# Altium footprint library PCBLib.PcbLib: 14 footprints
Each footprint in its own frame and in the unit in brackets; x right, y up, seen from the top. Pads: shape width x height; smd on the part's side, far side on the other; paste and mask are expansions set on the pad; w line width, h text height; cw(c..) or ccw(c..) is an arc to the next point about the centre after c.
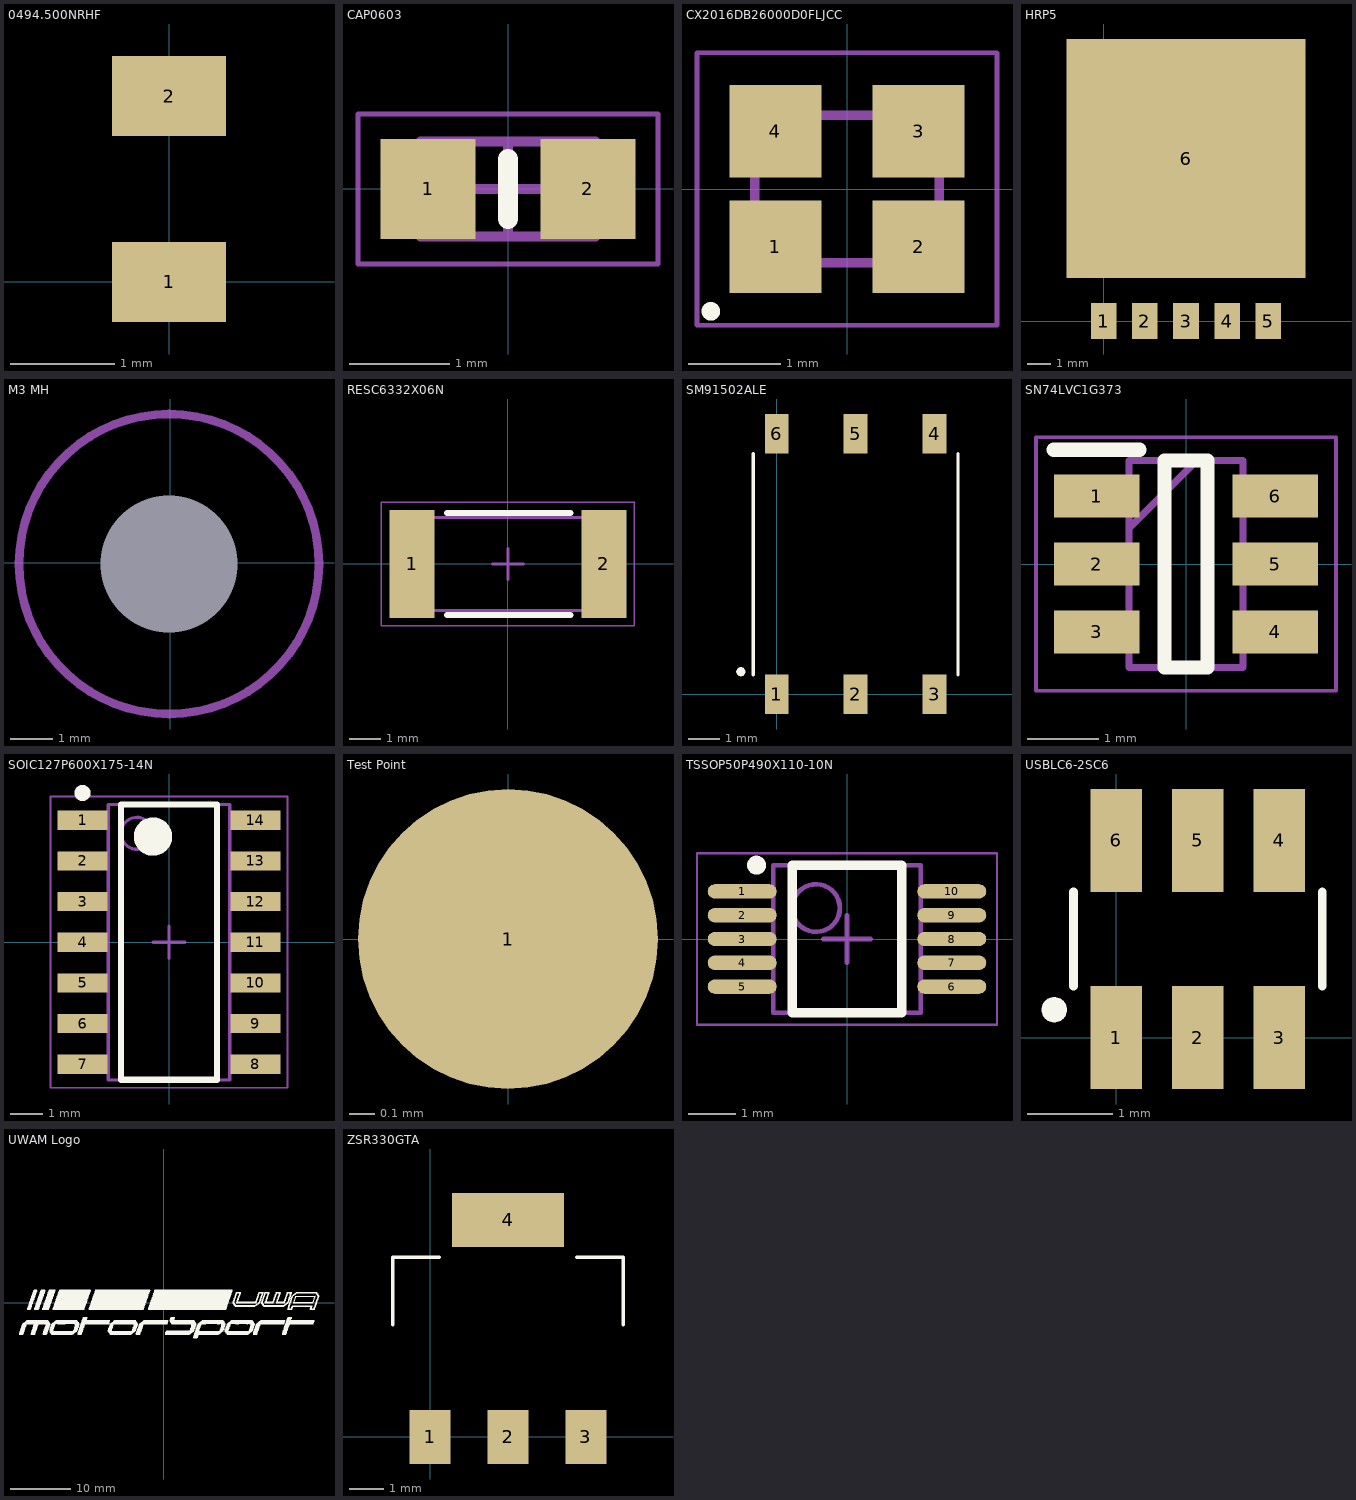
[diagram p0: the footprints below, top view; thin cyan lines are the x and y axes]

## 0494.500NRHF [mil] "500mA Fast Blow Fuse"
pads (2):
  rect 42.91x30 smd: 1(0,0) 2(0,70)

## CAP0603 [mm] "Chip Capacitor, 2-Leads, Body 1.60x0.80mm, IPC Medium Density"
height 0.9
pads (2):
  rect 0.95x1 smd: 1(-0.8,0) 2(0.8,0)
Top Overlay:
  lines w0.2: 0,-0.3 0,0.3
Top 3D Body:
  lines w0.05: -1.5,-0.75 1.5,-0.75 1.5,0.75 -1.5,0.75 -1.5,-0.75
  lines w0.1: -0.475,0 0.475,0 ; 0,-0.475 0,0.475
Top 3D Body (Mech13):
  lines w0.1: -0.875,-0.475 0.875,-0.475 0.875,0.475 -0.875,0.475 -0.875,-0.475
3D body "CAP0603.step": height 0.9, standoff 0, extent -0.875,-0.475 0.875,0.475

## CX2016DB26000D0FLJCC [mm] "26 MHz"
pads (4):
  rect 1x1 smd: 1(-0.775,-0.625) 2(0.775,-0.625) 3(0.775,0.625) 4(-0.775,0.625)
Top Overlay:
  lines w0.1: -1.428,-1.307 ccw(c-1.475,-1.325) -1.425,-1.325
Top Assembly:
  lines w0.1: -1,-0.8 1,-0.8 1,0.8 -1,0.8 -1,-0.8
Top Courtyard:
  lines w0.05: -1.625,-1.475 1.625,-1.475 1.625,1.475 -1.625,1.475 -1.625,-1.475
3D body "User Library-CX2016DB16000D0GPSC1.STEP": height 0.41, standoff 0.01, extent -1,-0.8 1,0.8

## HRP5 [mm] "LDO Regulator"
pads (6):
  rect 1.07x1.5 smd: 1(0,0) 2(1.72,0) 3(3.44,0) 4(5.16,0) 5(6.88,0)
  rect 10x10 smd: 6(3.44,6.8)
3D body "ba50dd0whfp-tr.stp": height 1.93, standoff 0.01, extent -1.295,-0.275 8.1,10.265

## M3 MH [mm] "M3 Mounting Hole"
pads (1):
  round 0 hole 3.2 unplated: 1(-0.025,-0.025)
Top 3D Body:
  circle w0.2: c-0.025,-0.025 r3.5

## RESC6332X06N [mm] "Chip Resistor, 2-Leads, Body 6.30x3.15mm, IPC Medium Density"
height 0.6
pads (2):
  rect 1.45x3.5 smd: 1(-3.1,0) 2(3.1,0)
Top Overlay:
  lines w0.2: -1.975,-1.65 2.025,-1.65 ; -1.975,1.65 2.025,1.65
Top 3D Body (Mech13):
  lines w0.1: -3.25,-1.5 3.25,-1.5 3.25,1.5 -3.25,1.5 -3.25,-1.5
Mechanical 15:
  lines w0.05: 4.075,2 4.075,-2 -4.1,-2 -4.1,2 4.1,2
  lines w0.1: -0.5,0 0.5,0 ; 0,-0.5 0,0.5
3D body "RESC6332X06N.step": height 0.6, standoff 0, extent -3.25,-1.5 3.25,1.5

## SM91502ALE [mm]
pads (7):
  rect 0.76x1.27 smd: 1(0,0) 2(2.54,0) 3(5.08,0) 4(5.08,8.38) 5(2.54,8.38) 6(0,8.38)
  round 0.3 on Top Overlay: ""(-1.15,0.725)
Top Overlay:
  lines w0.1: -0.75,0.625 -0.75,7.75 ; 5.83,0.625 5.83,7.75
3D body "SM91502ALE.STP": height 5.73, standoff 0.01, extent -1.285,-0.22 6.335,8.67

## SN74LVC1G373 [mm]
pads (6):
  rect 1.2x0.6 smd: 1(-1.25,0.95) 2(-1.25,0) 3(-1.25,-0.95) 4(1.25,-0.95) 5(1.25,0) 6(1.25,0.95)
Top Overlay:
  lines w0.2: -1.85,1.6 -0.65,1.6 ; -0.3,-1.45 -0.3,1.45 0.3,1.45 0.3,-1.45 -0.3,-1.45
Top 3D Body (Mech13):
  lines w0.1: -0.8,0.5 0.15,1.45 ; -0.8,-1.45 -0.8,1.45 0.8,1.45 0.8,-1.45 -0.8,-1.45
Mechanical 15:
  lines w0.05: -2.1,-1.775 -2.1,1.775 2.1,1.775 2.1,-1.775 -2.1,-1.775
3D body "74LVC1G373DBVRE4.stp": height 1.45, standoff 0, extent -1.4,-1.45 1.4,1.45

## SOIC127P600X175-14N [mm] "SOIC, 14-Leads, Body 8.65x3.90mm, Pitch 1.27mm, IPC Medium Density"
height 1.75
pads (14):
  rect 1.55x0.6 smd: 1(-2.7,3.81) 2(-2.7,2.54) 3(-2.7,1.27) 4(-2.7,0) 5(-2.7,-1.27) 6(-2.7,-2.54) 7(-2.7,-3.81) 8(2.7,-3.81) 9(2.7,-2.54) 10(2.7,-1.27) 11(2.7,0) 12(2.7,1.27) 13(2.7,2.54) 14(2.7,3.81)
Top Overlay:
  circle w0.25: c-2.7,4.66 r0.125
  circle w0.6: c-0.5,3.3 r0.3
  lines w0.2: -1.5,-4.3 -1.5,4.3 1.5,4.3 1.5,-4.3 -1.5,-4.3
Top 3D Body (Mech13):
  circle w0.1: c-1,3.4 r0.5
  lines w0.1: -1.9,-4.3 -1.9,4.3 1.9,4.3 1.9,-4.3 -1.9,-4.3
Mechanical 15:
  lines w0.05: -3.7,-4.55 -3.7,4.55 3.7,4.55 3.7,-4.55 -3.7,-4.55
  lines w0.1: -0.5,0 0.5,0 ; 0,-0.5 0,0.5
3D body "SOIC127P600X175-14N.step": height 1.75, standoff 0, extent -3,-4.3 3,4.3

## Test Point [mm] "1.2mm Test point"
pads (1):
  round 1.2 smd: 1(0,0)

## TSSOP50P490X110-10N [mm] "TSSOP, 10-Leads, Body 3.00x3.00mm, Pitch 0.50mm, IPC Medium Density"
height 1.1
pads (10):
  oval 1.45x0.3 smd: 1(-2.2,1) 2(-2.2,0.5) 3(-2.2,0) 4(-2.2,-0.5) 5(-2.2,-1) 6(2.2,-1) 7(2.2,-0.5) 8(2.2,0) 9(2.2,0.5) 10(2.2,1)
Top Overlay:
  circle w0.2: c-1.9,1.55 r0.1
  lines w0.2: -1.15,-1.55 -1.15,1.55 1.15,1.55 1.15,-1.55 -1.15,-1.55
Top Assembly:
  circle w0.1: c-0.65,0.65 r0.5
  lines w0.1: -1.55,-1.55 1.55,-1.55 1.55,1.55 -1.55,1.55 -1.55,-1.55
Top Courtyard:
  lines w0.05: -3.15,-1.8 -3.15,1.8 3.15,1.8 3.15,-1.8 -3.15,-1.8
  lines w0.1: -0.5,0 0.5,0 ; 0,-0.5 0,0.5
3D body "TSSOP50P490X110-10N.step": height 1.1, standoff 0, extent -2.45,-1.55 2.45,1.55

## USBLC6-2SC6 [mm] "SOT-23-6"
pads (7):
  rect 0.6x1.2 smd: 1(0,0) 2(0.95,0) 3(1.9,0) 4(1.9,2.3) 5(0.95,2.3) 6(0,2.3)
  round 0.3 on Top Overlay: ""(-0.725,0.325)
Top Overlay:
  lines w0.1: -0.5,0.6 -0.5,1.7 ; 2.4,0.6 2.4,1.7
3D body "usblc6-2sc6y.stp": height 1.18, standoff 0, extent -0.498,-0.225 2.398,2.575

## UWAM Logo [mm] "UWAM Logo"
Top Overlay:
  drawing of 19 lines, arcs and shapes, not listed

## ZSR330GTA [mm] "3.3V 200mA LVR"
pads (4):
  rect 1.2x1.6 smd: 1(0,0) 2(2.3,0) 3(4.6,0)
  rect 3.3x1.6 smd: 4(2.3,6.4)
Top Overlay:
  lines w0.1: -1.102,3.3 -1.102,5.3 0.273,5.3 ; 4.327,5.3 5.702,5.3 5.702,3.3
3D body "SOT-223-1.step": height 1.66, standoff 0.01, extent -0.95,-0.1 5.55,6.9